# Altium footprint library Interface - CAN.PcbLib: 1 footprints
Each footprint in its own frame and in the unit in brackets; x right, y up, seen from the top. Pads: shape width x height; smd on the part's side, far side on the other; paste and mask are expansions set on the pad; w line width, h text height; cw(c..) or ccw(c..) is an arc to the next point about the centre after c.
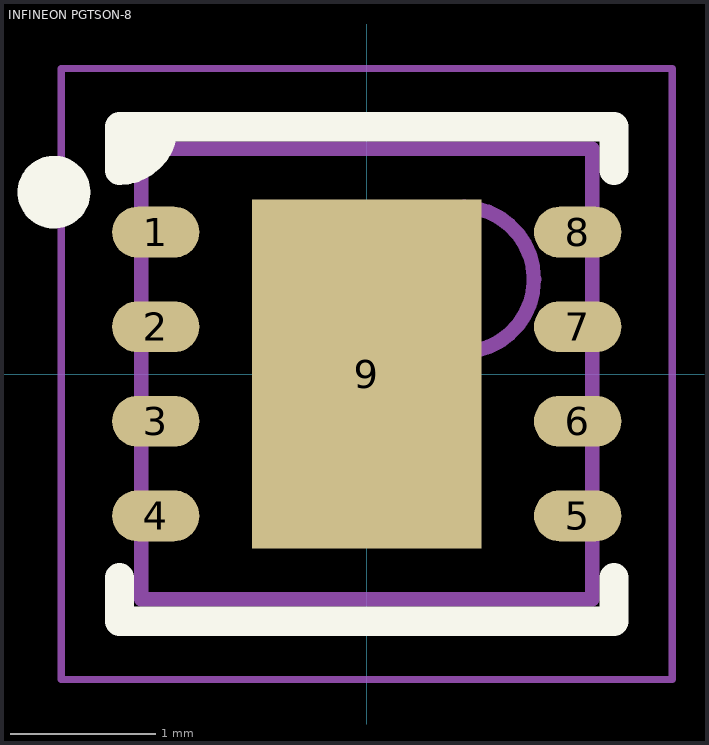
[diagram p0: the footprint, top view; thin cyan lines are the x and y axes]

## INFINEON PGTSON-8 [mm] "DFN, 8-Leads, Body 3.00x3.00mm, Pitch 0.65mm, Thermal Pad 2.40x1.58mm, IPC Medium Density"
height 1
pads (9):
  oval 0.6x0.35 smd: 1(-1.45,0.975) 2(-1.45,0.325) 3(-1.45,-0.325) 4(-1.45,-0.975) 5(1.45,-0.975) 6(1.45,-0.325) 7(1.45,0.325) 8(1.45,0.975)
  rect 1.58x2.4 smd: 9(0,0)
Top Overlay:
  circle w0.25: c-2.15,1.25 r0.125
  region: -1.7,1.7 -1.4,1.7 -1.7,1.4
  lines w0.2: -1.7,-1.4 -1.7,-1.7 1.7,-1.7 1.7,-1.4 ; -1.4,1.7 cw(c-1.7,1.7) -1.7,1.4 -1.7,1.7 1.7,1.7 1.7,1.4
Mechanical 13:
  circle w0.1: c0.65,0.65 r0.5
  lines w0.1: -1.55,-1.55 1.55,-1.55 1.55,1.55 -1.55,1.55 -1.55,-1.55
Mechanical 15:
  lines w0.05: -2.1,-2.1 2.1,-2.1 2.1,2.1 -2.1,2.1 -2.1,-2.1
  lines w0.1: -0.5,0 0.5,0 ; 0,-0.5 0,0.5
3D body: height 1, standoff 0.01, extent -1.55,-1.55 1.55,1.55